# Altium schematic symbol library DI.SchLib: 1 symbol
Pins are listed as number, name and electrical type; pins without a type are passive.

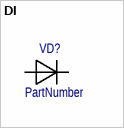
[diagram p0: symbol DI]

## DI
designator VD?  (value not drawn)
Common diode; PartNumber: PartNumber
pins: A, C